# EAGLE library part TERM_BLK_7POS_TE796638 (library Icotech_Eagle_Library)
5.08 EUROSTYLE 2 PART TERMINAL BLOCK TE Connectivity: 796638-7 Mouser 571-7966387
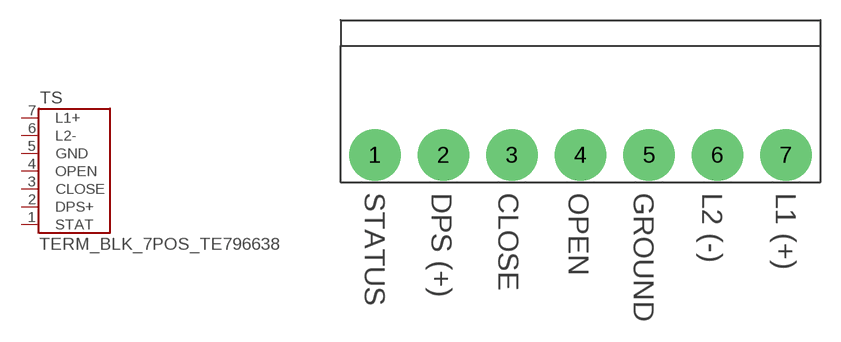
[diagram p4: symbol with the pads of TE_CONN_796638; footprint TE_CONN_796638]

Designator prefix TS

## TERM_BLK_7POS_TE796638 (OC_FARNELL: unknown; OC_NEWARK: unknown)  [TE_CONN_796638]
1  STAT
2  DPS+
3  CLOSE
4  OPEN
5  GND
6  L2-
7  L1+

## Footprint TE_CONN_796638 (pad centres in mm)
WAGO SREW CLAMP
drill 1.4 pad 3.81: 1 -15.24,0.015; 2 -10.16,0.015; 3 -5.08,0.015; 4 0,0.015; 5 5.08,0.015; 6 10.16,0.015; 7 15.24,0.015